# EAGLE library part ADG791G (library NASA_LIB)
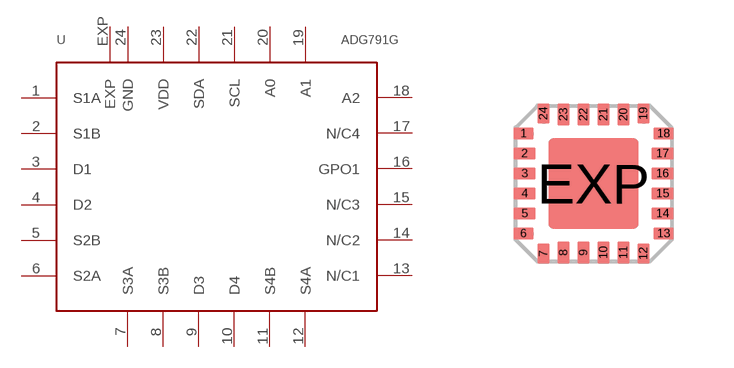
[diagram p9: symbol with the pads of LFCSP24; footprint LFCSP24]

Designator prefix -

## ADG791G  [LFCSP24]
1  S1A
2  S1B
3  D1
4  D2
5  S2B
6  S2A
7  S3A
8  S3B
9  D3
10  D4
11  S4B
12  S4A
13  N/C1
14  N/C2
15  N/C3
16  GPO1
17  N/C4
18  A2
19  A1
20  A0
21  SCL
22  SDA
23  VDD
24  GND
EXP  EXP

## Footprint LFCSP24 (pad centres in mm)
smd 0.5 x 0.3: 1 -1.75,1.25; 6 -1.75,-1.25; 13 1.75,-1.25; 18 1.75,1.25
smd 0.55 x 0.3: 2 -1.725,0.75; 3 -1.725,0.25; 4 -1.725,-0.25; 5 -1.725,-0.75; 14 1.725,-0.75; 15 1.725,-0.25; 16 1.725,0.25; 17 1.725,0.75
smd 0.3 x 0.5: 7 -1.25,-1.75; 12 1.25,-1.75; 19 1.25,1.75; 24 -1.25,1.75
smd 0.3 x 0.55: 8 -0.75,-1.725; 9 -0.25,-1.725; 10 0.25,-1.725; 11 0.75,-1.725; 20 0.75,1.725; 21 0.25,1.725; 22 -0.25,1.725; 23 -0.75,1.725
smd 2.25 x 2.25: EXP 0,0